# EAGLE library part MM74C923N (library Fairchild_By_element14_Batch_1)
16-Key Encoder
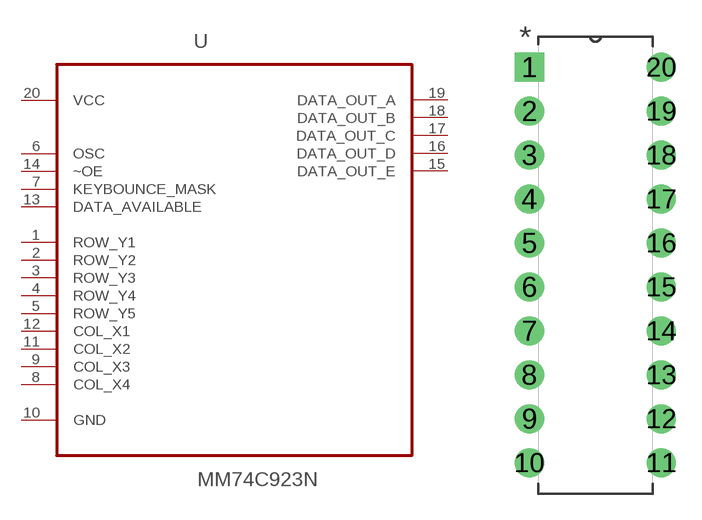
[diagram p228: symbol with the pads of DIP254P762X508-20; footprint DIP254P762X508-20]

Designator prefix U

## MM74C923N (MPN: MM74C923N; OC_FARNELL: -; OC_NEWARK: 58K9441; PACKAGE: PDIP-20; SUPPLIER: Fairchild)  [DIP254P762X508-20]
1  ROW_Y1  in
2  ROW_Y2  in
3  ROW_Y3  in
4  ROW_Y4  in
5  ROW_Y5  in
6  OSC  in
7  KEYBOUNCE_MASK  in
8  COL_X4  in
9  COL_X3  in
10  GND  pas
11  COL_X2  in
12  COL_X1  in
13  DATA_AVAILABLE  pas
14  ~OE  pas
15  DATA_OUT_E  out
16  DATA_OUT_D  out
17  DATA_OUT_C  out
18  DATA_OUT_B  out
19  DATA_OUT_A  out
20  VCC  pwr

## Footprint DIP254P762X508-20 (pad centres in mm)
drill 1.118 square: 1 -7.62,22.86
drill 1.118: 2 -7.62,20.32; 3 -7.62,17.78; 4 -7.62,15.24; 5 -7.62,12.7; 6 -7.62,10.16; 7 -7.62,7.62; 8 -7.62,5.08; 9 -7.62,2.54; 10 -7.62,0; 11 0,0; 12 0,2.54; 13 0,5.08; 14 0,7.62; 15 0,10.16; 16 0,12.7; 17 0,15.24; 18 0,17.78; 19 0,20.32; 20 0,22.86